# Altium schematic symbol library RC0402FR-07240RL.SchLib: 1 symbol
Pins are listed as number, name and electrical type; pins without a type are passive.

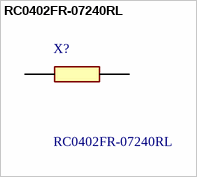
[diagram p0: symbol RC0402FR-07240RL]

## RC0402FR-07240RL
designator X?
YAGEO - RC0402FR-07240RL - RES, 240R, 1%, 0.063W, 0402, THICK FILM; Manufacturer_Name: Yageo Group; Geometry.Height: 0.4mm; Mouser Part Number: 603-RC0402FR-07240RL; Mouser Price/Stock: https://www.mouser.co.uk/ProductDetail/Yageo/RC0402FR-07240RL?qs=UOUeRUa%252B8WlvTJm%2FWhbzSg%3D%3D; Manufacturer_Part_Number: RC0402FR-07240RL; Datasheet Link: http://www.yageo.com/documents/recent/PYu-RC0402_51_RoHS_L_6_r.pdf
footprint RESC1005X40N
pins: 1, 2